# EAGLE library part GY-89 (library GY-89)
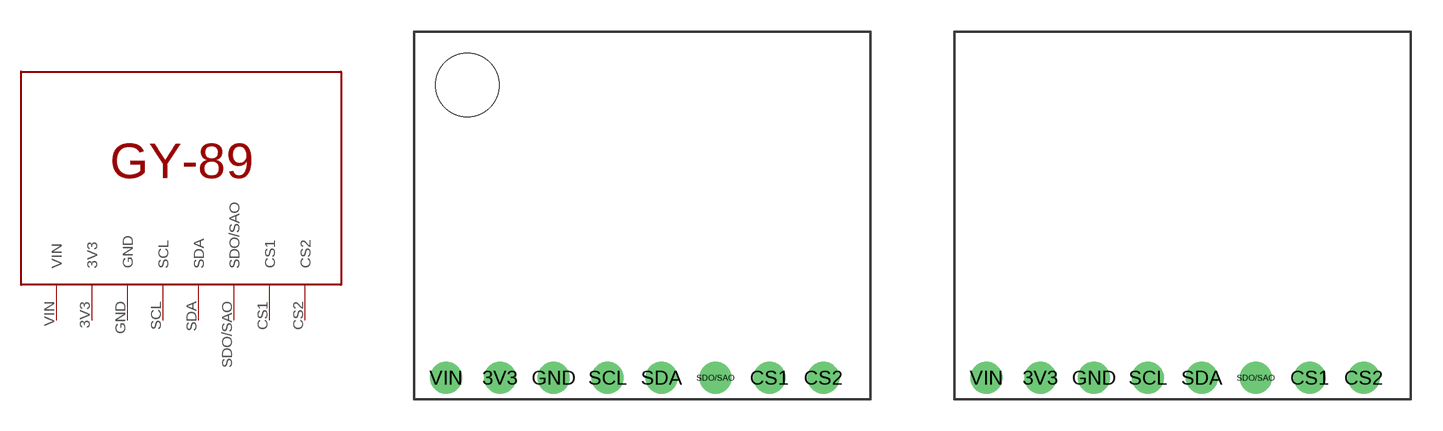
[diagram p0: symbol with the pads of GY-89_HOLE; footprints GY-89_HOLE, GY-89_PAD]

Designator prefix -

## GY-89  [GY-89_HOLE]
3V3  3V3
CS1  CS1
CS2  CS2
GND  GND
SCL  SCL
SDA  SDA
SDO/SAO  SDO/SAO
VIN  VIN

## GY-89SMD  [GY-89_PAD]
Pads as for GY-89_HOLE

## GY-89FLOATING  [GY-89_FLOATING]
Pads as for GY-89_HOLE

## Footprint GY-89_HOLE (pad centres in mm)
drill 1: 3V3 2.54,0; CS1 15.24,0; CS2 17.78,0; GND 5.08,0; SCL 7.62,0; SDA 10.16,0; SDO/SAO 12.7,0; VIN 0,0
hole 3 at 1,13.8

## Footprint GY-89_PAD (pad centres in mm)
drill 1: 3V3 2.54,0; CS1 15.24,0; CS2 17.78,0; GND 5.08,0; SCL 7.62,0; SDA 10.16,0; SDO/SAO 12.7,0; VIN 0,0

## Footprint GY-89_FLOATING (pad centres in mm)
drill 1: 3V3 2.54,0; CS1 15.24,0; CS2 17.78,0; GND 5.08,0; SCL 7.62,0; SDA 10.16,0; SDO/SAO 12.7,0; VIN 0,0